# Altium footprint library RESISTOREN.PcbLib: 5 footprints
Each footprint in its own frame and in the unit in brackets; x right, y up, seen from the top. Pads: shape width x height; smd on the part's side, far side on the other; paste and mask are expansions set on the pad; w line width, h text height; cw(c..) or ccw(c..) is an arc to the next point about the centre after c.
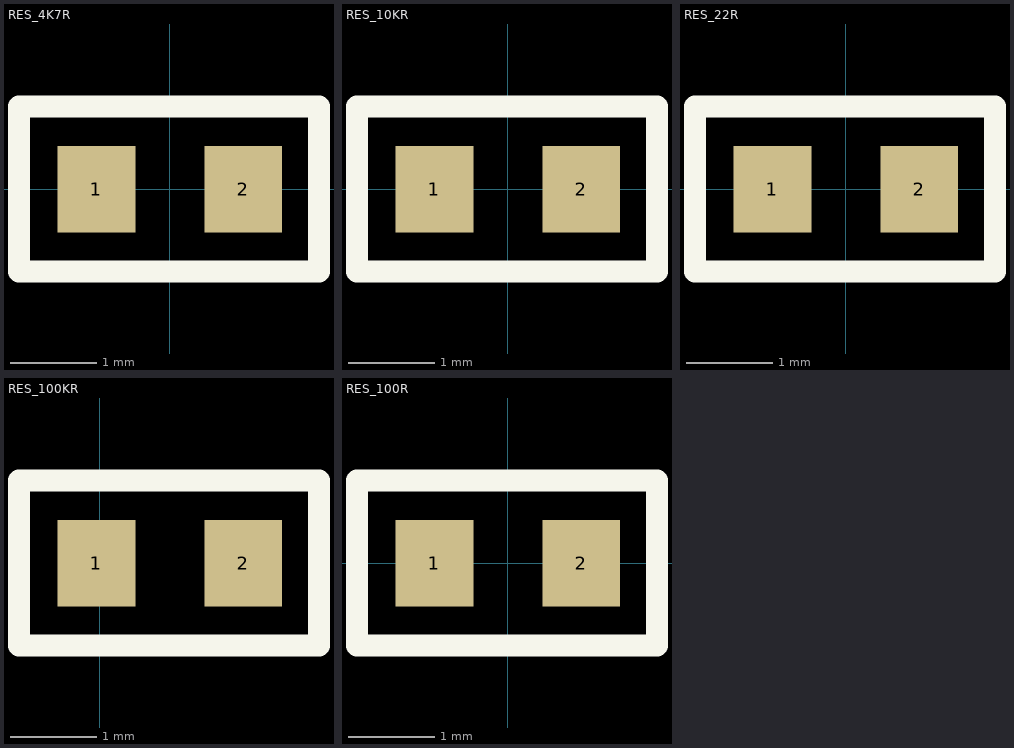
[diagram p0: the footprints below, top view; thin cyan lines are the x and y axes]

## RES_4K7R [mm]
pads (2):
  rect 0.9x1 smd paste-2539.97: 1(-0.85,0) 2(0.85,0)
Top Overlay:
  lines w0.254: -1.747,-0.951 1.726,-0.951 1.726,0.96 -1.747,0.96 -1.747,-0.951
3D body "RC0603FR-7W1KL.STEP": height 0.81, standoff 0.01, extent -0.775,-0.432 0.825,0.468

## RES_10KR [mm]
pads (2):
  rect 0.9x1 smd paste-2539.97: 1(-0.85,0) 2(0.85,0)
Top Overlay:
  lines w0.254: -1.747,-0.951 1.726,-0.951 1.726,0.96 -1.747,0.96 -1.747,-0.951
3D body "RC0603FR-7W1KL.STEP": height 0.81, standoff 0.01, extent -0.775,-0.432 0.825,0.468

## RES_22R [mm]
pads (2):
  rect 0.9x1 smd paste-2539.97: 1(-0.85,0) 2(0.85,0)
Top Overlay:
  lines w0.254: -1.747,-0.951 1.726,-0.951 1.726,0.96 -1.747,0.96 -1.747,-0.951
3D body "RC0603FR-7W1KL.STEP": height 0.81, standoff 0.01, extent -0.775,-0.432 0.825,0.468

## RES_100KR [mm]
pads (2):
  rect 0.9x1 smd paste-2539.97: 1(-0.037,2.21) 2(1.663,2.21)
Top Overlay:
  lines w0.254: -0.934,1.259 -0.934,3.17 2.539,3.17 2.539,1.259 -0.934,1.259
3D body "RC0603FR-7W1KL.STEP": height 0.81, standoff 0.01, extent 0.038,1.778 1.638,2.678

## RES_100R [mm]
pads (2):
  rect 0.9x1 smd paste-2539.97: 1(-0.85,0) 2(0.85,0)
Top Overlay:
  lines w0.254: -1.747,-0.951 1.726,-0.951 1.726,0.96 -1.747,0.96 -1.747,-0.951
3D body "RC0603FR-7W1KL.STEP": height 0.81, standoff 0.01, extent -0.775,-0.432 0.825,0.468